# Altium footprint library F2405S-1WR3.PcbLib: 1 footprints
Each footprint in its own frame and in the unit in brackets; x right, y up, seen from the top. Pads: shape width x height; smd on the part's side, far side on the other; paste and mask are expansions set on the pad; w line width, h text height; cw(c..) or ccw(c..) is an arc to the next point about the centre after c.
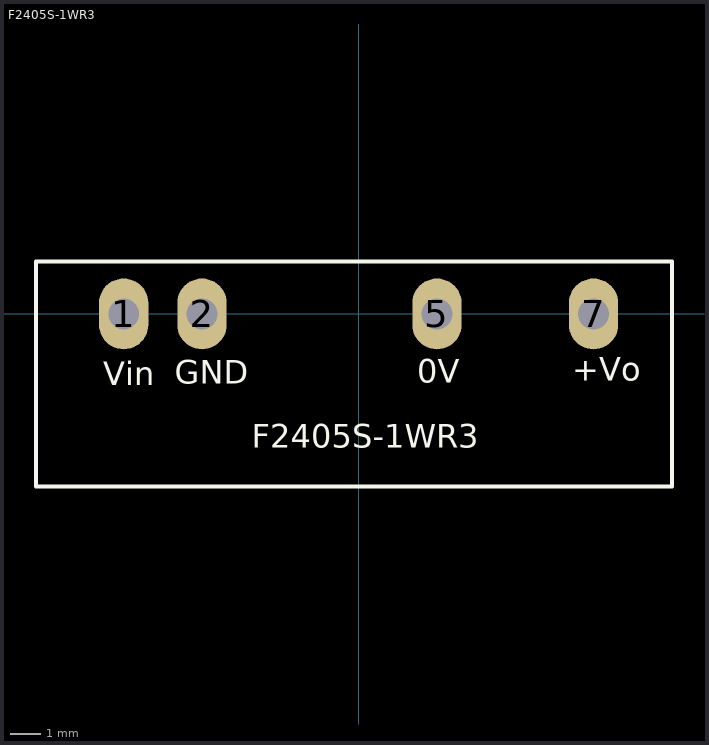
[diagram p0: the footprint, top view; thin cyan lines are the x and y axes]

## F2405S-1WR3 [mm]
pads (4):
  oval 1.6x2.3 hole 1: 1(-7.62,0) 2(-5.08,0) 5(2.54,0) 7(7.62,0)
Top Overlay:
  lines w0.127: -10.47,-5.6 10.17,-5.6 10.17,1.7 -10.47,1.7 -10.47,-5.6
  text "+Vo" at 6.936,-2.164 h0.76
  text "0V" at 1.905,-2.235 h0.76
  text "GND" at -5.969,-2.272 h0.76
  text "Vin" at -8.284,-2.308 h0.76
  text "F2405S-1WR3" at -3.467,-4.348 h0.76
3D body "F_S-1WR3.stp": height 10.16, standoff -4.1, extent -9.945,-5.118 9.704,0.882